# Altium schematic symbol library lib_ankit.SchLib: 7 symbols
Pins are listed as number, name and electrical type; pins without a type are passive.

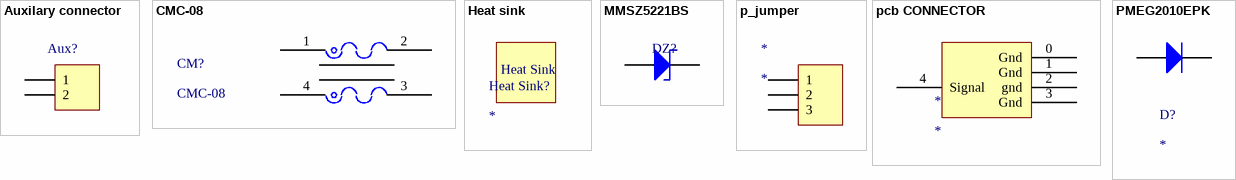
[diagram p0: symbols Auxilary connector to PMEG2010EPK]

## Auxilary connector
designator Aux?  (value not drawn)
footprint Auxlilary connector
pins: 1, 2

## CMC-08
designator CM?
Common mode choke
footprint CMC-08 (common mode coke)
pins: 1, 2, 3, 4

## Heat sink
designator Heat Sink?
footprint Heat Sink
text: Heat Sink

## MMSZ5221BS
designator DZ?  (value not drawn)
MMSZ5221BS
footprint MMSZ5221BS (SODFL, 2-Leads, Body 1.30x2.50mm, IPC Medium Density)
pins: 1 K, 2 A

## p_jumper
designator *
footprint Header1*3
pins: 1, 2, 3

## pcb CONNECTOR
designator *
footprint PCB_CONNECTOR
pins: 0 Gnd, 1 Gnd, 2 gnd, 3 Gnd, 4 Signal

## PMEG2010EPK
designator D?
PMEG2010EPK
footprint PMEG2010EPK
pins: 0 K, 1 A